# EAGLE library part UDN2982A-T (library SKAARHOJ)
8-Channel Source Drivers
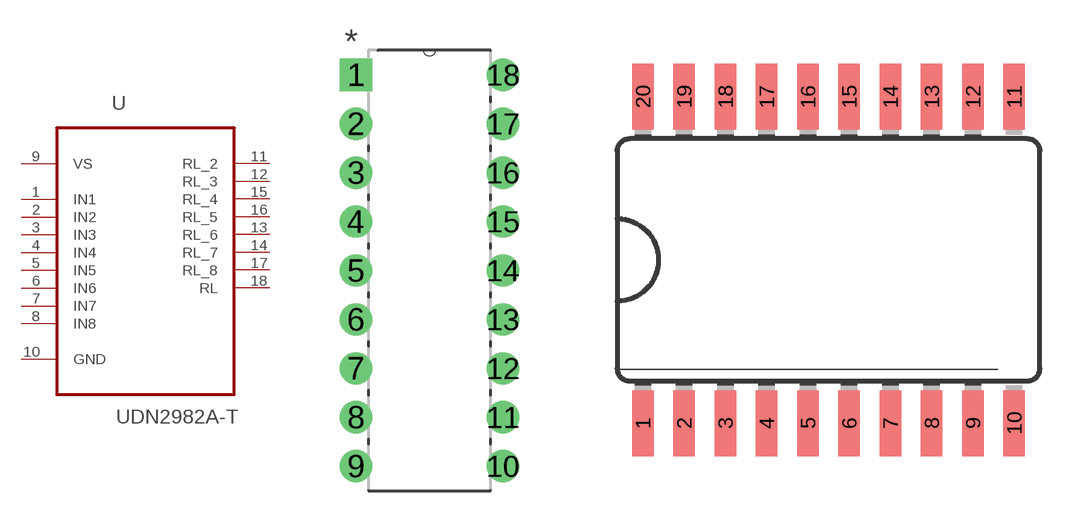
[diagram p89: symbol with the pads of DIP254P762X533-18; footprints DIP254P762X533-18, SO20W]

Designator prefix U

## UDN2982A-T (MPN: UDN2982A-T; OC_FARNELL: 1521728; OC_NEWARK: 31K7842; PACKAGE: PDIP-18; SUPPLIER: ALLEGRO MICROSYSTEMS)  [DIP254P762X533-18]
1  IN1  in
2  IN2  in
3  IN3  in
4  IN4  in
5  IN5  in
6  IN6  in
7  IN7  in
8  IN8  in
9  VS  pwr
10  GND  pas
11  RL_2  pas
12  RL_3  pas
13  RL_6  pas
14  RL_7  pas
15  RL_4  pas
16  RL_5  pas
17  RL_8  pas
18  RL  pas

## UDN2982A-TSO20W  [SO20W]
1  IN1  in
2  IN2  in
3  IN3  in
4  IN4  in
5  IN5  in
6  IN6  in
7  IN7  in
8  IN8  in
9  VS  pwr
12  GND  pas
13  RL_8  pas
14  RL_7  pas
15  RL_6  pas
16  RL_5  pas
17  RL_4  pas
18  RL_3  pas
19  RL_2  pas
20  RL  pas

## Footprint DIP254P762X533-18 (pad centres in mm)
drill 1.118 square: 1 -7.62,20.32
drill 1.118: 2 -7.62,17.78; 3 -7.62,15.24; 4 -7.62,12.7; 5 -7.62,10.16; 6 -7.62,7.62; 7 -7.62,5.08; 8 -7.62,2.54; 9 -7.62,0; 10 0,0; 11 0,2.54; 12 0,5.08; 13 0,7.62; 14 0,10.16; 15 0,12.7; 16 0,15.24; 17 0,17.78; 18 0,20.32

## Footprint SO20W (pad centres in mm)
smd 0.66 x 2.032: 1 -5.08,-5.029; 2 -3.81,-5.029; 3 -2.54,-5.029; 4 -1.27,-5.029; 5 0,-5.029; 6 1.27,-5.029; 7 2.54,-5.029; 8 3.81,-5.029; 9 5.08,-5.029; 10 6.35,-5.029; 11 6.35,5.029; 12 5.08,5.029; 13 3.81,5.029; 14 2.54,5.029; 15 1.27,5.029; 16 0,5.029; 17 -1.27,5.029; 18 -2.54,5.029; 19 -3.81,5.029; 20 -5.08,5.029